# Altium integrated library FA26X7R1E106KRU06.IntLib: 1 symbol
Pins are listed as number, name and electrical type; pins without a type are passive.

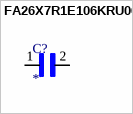
[diagram p0: symbol FA26X7R1E106KRU06]

## FA26X7R1E106KRU06
designator C?
Cap Ceramic 10uF 25V X7R 10% Radial 5mm 125C Automotive Ammo; MP: FA26X7R1E106KRU06; MF: TDK; SnapEDA_Link: https://www.snapeda.com/parts/FA26X7R1E106KRU06/TDK/view-part/?ref=snap; Digi-Key_Part_Number: 445-180683-1-ND; Package: Radial TDK; Value: *; Check_prices: https://www.snapeda.com/parts/FA26X7R1E106KRU06/TDK/view-part/?ref=eda; Purchase-URL: https://pricing.snapeda.com/search/part/FA26X7R1E106KRU06/?ref=eda
footprint CAPRB500W50L550T350H600
pins: 1, 2